# Altium schematic symbol library USBLC6-2SC6.SchLib: 2 symbols
Pins are listed as number, name and electrical type; pins without a type are passive.

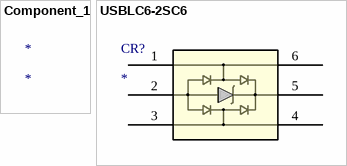
[diagram p0: symbols Component_1 to USBLC6-2SC6]

## Component_1
designator *

## USBLC6-2SC6
designator CR?
No Description Available; Mfr_Name: STMicroelectronics; RefDes: RefDes; Type: Type
footprint SOT23-6L_STM
pins: 1, 2, 3, 4, 5, 6